# Altium integrated library Sensor-Transductor.IntLib: 25 symbols
Pins are listed as number, name and electrical type; pins without a type are passive.

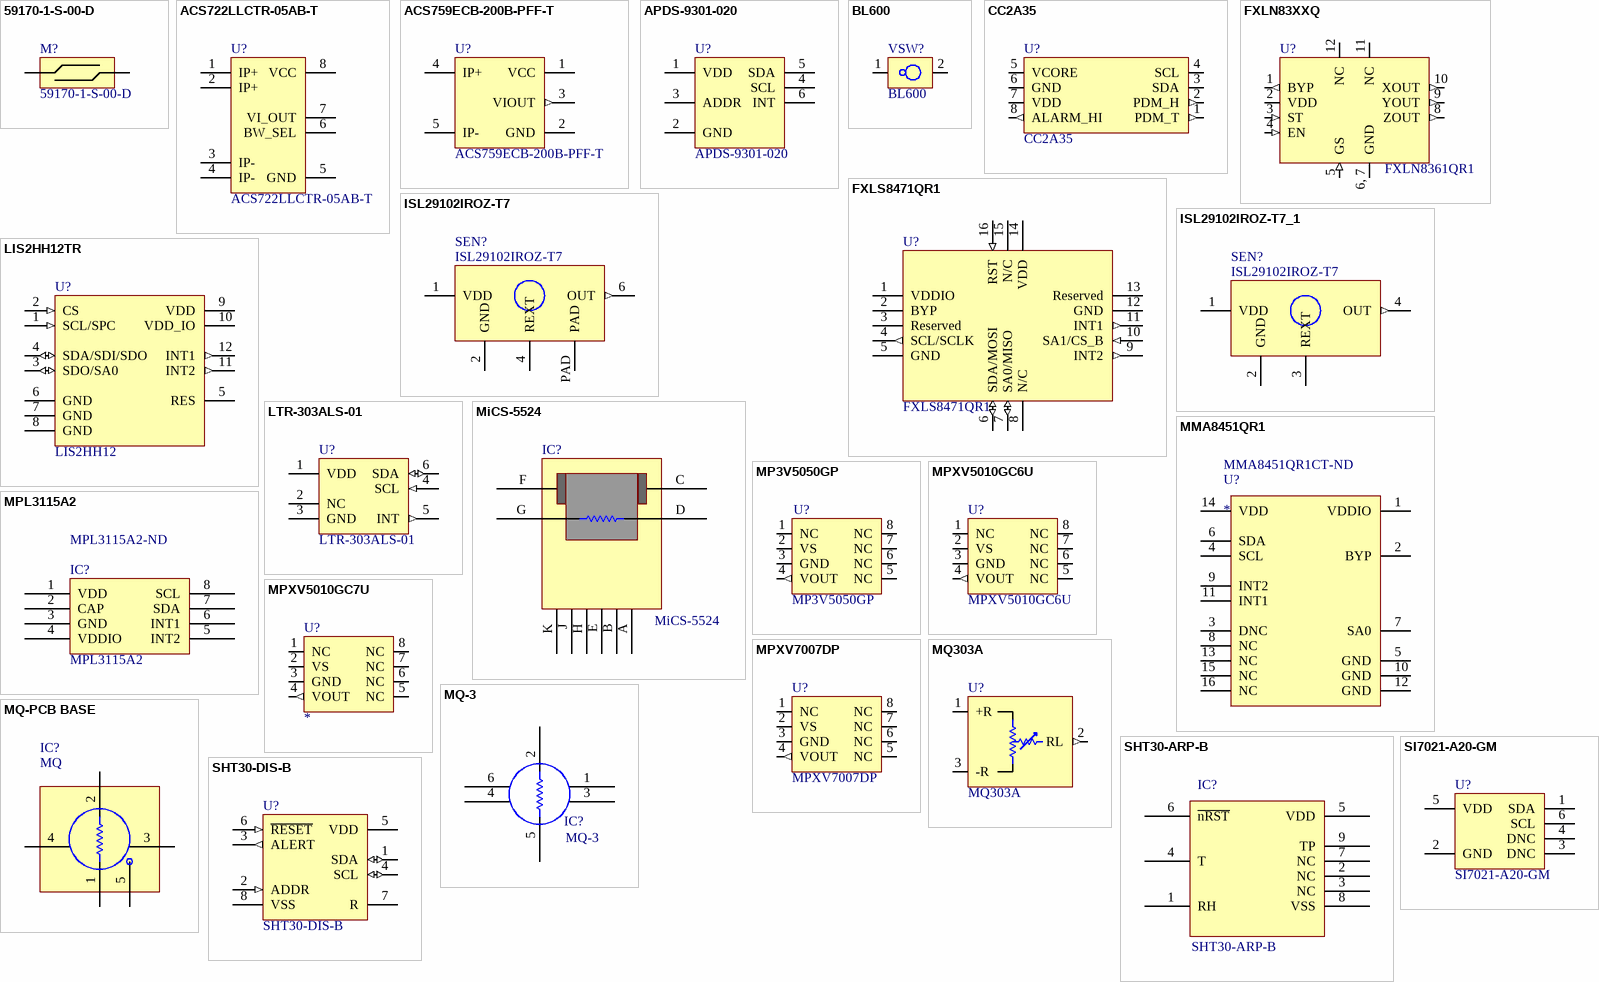
[diagram p0: symbols 59170-1-S-00-D to SI7021-A20-GM]

## 59170-1-S-00-D
designator M?
Switch Reed N.O. 0.5A 200VDC 10VA 1ms 100mOhm; Manufacturer: Littelfuse Hamlin; Nominal Supply Current: 500mA; Throw Configuration: SPST; Contact Resistance: 100mR; Max Voltage Rating (DC): 200V; Supplier 1: Digi-Key; Manufacturer Part Number: 59170-1-S-00-D; Stock 1: 32378; Pricing 1: 1=0.97, 10=0.853, 25=0.8184, 50=0.7672, 100=0.7502, 250=0.5968, 500=0.5456 (USD); Mount: Surface Mount,PCB; Case/Package: 200; Min Operating Temperature: -40°C; Max Operating Temperature: 125°C; Package Quantity: 1; Packaging: Tape and Reel; Termination: Gull Wing; Max Current Rating: 500mA; Operating Supply Voltage: 200V; Length: 16.25mm; Radiation Hardening: No; Lead Free: Lead Free; ComponentLink1URL: https://datasheet.ciiva.com/16330/59170issue2-16330446.pdf; ComponentLink1Description: https://datasheet.ciiva.com/16330/59170issue2-16330446.pdf; Supplier Part Number 1: HE549DKR-ND; Value: 59170-1-S-00-D
footprint 59170-1-S-00-D (SWITCH REED SPST-NO)
pins: 1, 2

## ACS722LLCTR-05AB-T
designator U?
SENSOR CURRENT HALL 5A AC/DC; Manufacturer 1: Allegro MicroSystems; Sensitivity: 264mV/A; Linearity: 1%; Accuracy: 3%; Number of Channels: 1; Frequency: 80kHz; Response Time: 5us; Max Supply Current: 12mA; Polarity: Bidirectional; Max Input Voltage: 3.6V; Min Input Voltage: 3V; Supplier 1: Digi-Key; Manufacturer Part Number 1: ACS722LLCTR-05AB-T; RoHS: Yes; Category: Current Sensors; Stock 1: 22660; Pricing 1: 1=4,91000, 5=4,33200, 10=3,82700, 25=3,10520, 50=2,74420, 100=2,67200, 500=2,23866, 1000=2,09424 (USD); Case/Package: SOIC; Number of Pins: 8; Min Operating Temperature: -40°C; Max Operating Temperature: 150°C; Packaging: Tape and Reel; Current Sensing: 5A; Length: 4.9mm; Height: 1.5mm; Width: 3.9mm; ComponentLink1URL: http://www.allegromicro.com/~/media/Files/Datasheets/ACS722-Datasheet.ashx?src-supplier=Digi-Key; ComponentLink1Description: http://www.allegromicro.com/~/media/Files/Datasheets/ACS722-Datasheet.ashx?src-supplier=Digi-Key; ComponentLink2URL: https://www.allegromicro.com/~/media/Files/Datasheets/ACS722-Datasheet.ashx?src-supplier=Digi-Key; ComponentLink2Description: https://www.allegromicro.com/~/media/Files/Datasheets/ACS722-Datasheet.ashx?src-supplier=Digi-Key; Supplier Part Number 1: 620-1634-1-ND; Value: ACS722LLCTR-05AB-T
footprint SOIC8 (SOIC, 8-Leads, Body 4.9x3.9mm, Pitch 1.27mm, IPC Medium Density)
pins: 1 IP+, 2 IP+, 3 IP-, 4 IP-, 5 GND, 6 BW_SEL, 7 VI_OUT, 8 VCC

## ACS759ECB-200B-PFF-T
designator U?
SENSOR CURRENT HALL 200A AC/DC; Manufacturer: Allegro MicroSystems, LLC; Sensor Type: Hall Effect, Open Loop; Number of Channels: 1; Output: Ratiometric, Voltage; Sensitivity: 8.8mV/A; Frequency: DC ~ 120kHz; Linearity: ±1%; Accuracy: ±4%; Voltage - Supply: 3 V ~ 3.6 V; Response Time: 4µs; Current - Supply (Max): 13.5mA; Polarization: Bidirectional; Supplier 1: Digi-Key; Manufacturer Part Number: ACS759ECB-200B-PFF-T; RoHS: RoHS Compliant; Category: Sensors, Transducers; Stock 1: 3495; Pricing 1: 1=7.98, 5=7, 10=6.3, 25=5.6, 50=5.18, 100=4.48, 500=4.2, 1000=3.92, 5000=3.724 (USD); Packaging: Tube; Part Status: Active; For Measuring: AC/DC; Current - Sensing: 200A; Operating Temperature: -40°C ~ 85°C; Mounting Type: Through Hole; Package / Case: 5-CB Formed Leads, PFF; ComponentLink1URL: http://www.allegromicro.com/en/Products/Current-Sensor-ICs/Fifty-To-Two-Hundred-Amp-Integrated-Conductor-Sensor-ICs/~/media/Files/Datasheets/ACS759-Datasheet.pdf; ComponentLink1Description: http://www.allegromicro.com/en/Products/Current-Sensor-ICs/Fifty-To-Two-Hundred-Amp-Integrated-Conductor-Sensor-ICs/~/media/Files/Datasheets/ACS759-Datasheet.pdf; Value: ACS759ECB-200B-PFF-T; Supplier Part Number 1: 620-1466-5-ND
footprint ACS759ECB
pins: 1 VCC, 2 GND, 3 VIOUT (out), 4 IP+, 5 IP-

## APDS-9301-020
designator U?
BROADCOM LIMITED         APDS-9301-020..             AMBIENT LIGHT SENSOR, SMD; Manufacturer: Broadcom Avago; Wavelength: 640nm; Rise Time: 300ns; Output Current: 20mA; Nominal Supply Current: 600uA; Max Supply Voltage (DC): 3.6V; Min Supply Voltage (DC): 2.7V; Output Type: I2C,Digital; Supplier 1: Digi-Key; Manufacturer Part Number: APDS-9301-020; Stock 1: 16413; Pricing 1: 1=1.78, 10=1.603, 100=1.2887, 500=1.0588, 1000=0.8773 (USD); Mount: Surface Mount; Case/Package: SMD/SMT; Number of Pins: 6; Min Operating Temperature: -30°C; Max Operating Temperature: 85°C; Packaging: Tape and Reel; Package Quantity: 1; Min Supply Voltage: 2.7V; Max Supply Voltage: 3.6V; Fall Time: 300ns; Length: 2.6mm; Height: 0.55mm; Width: 2.2mm; REACH SVHC: No SVHC; ComponentLink1URL: https://datasheet.ciiva.com/4697/v02-2315en-106111-4697640.pdf; ComponentLink1Description: https://datasheet.ciiva.com/4697/v02-2315en-106111-4697640.pdf; ComponentLink2URL: https://datasheet.ciiva.com/1314/609853-1314783.pdf; ComponentLink2Description: https://datasheet.ciiva.com/1314/609853-1314783.pdf; Value: APDS-9301-020; Supplier Part Number 1: 516-2664-6-ND
footprint APDS-9301
pins: 1 VDD, 2 GND, 3 ADDR, 4 SCL, 5 SDA, 6 INT

## BL600
designator VSW?
SMD Micro Vibration Switch; Manuf1: Beelee; Populated: Yes; Value: BL600; Manuf1Partnumber: BL600; Manufacturer: Beelee; Manufacturer Part Number: BL600; RoHS: Yes
footprint BL600
pins: 1, 2

## CC2A35
designator U?
CHIPCAP2 ANALOG 3% 5V; Manufacturer: Amphenol Advanced Sensors; Sensor Type: Humidity, Temperature; Humidity Range: 0 ~ 100% RH; Output Type: PDM; Output: 14b; Accuracy: ±3% RH; Response Time: 7s; Supplier 1: Digi-Key; Supplier Part Number 1: 235-1344-ND; Manufacturer Part Number: CC2A35; RoHS: RoHS Compliant; Category: Sensors, Transducers; Stock 1: 0; Pricing 1: 1=11.57, 5=10.15, 10=9.135, 25=8.12, 50=7.511, 100=6.496, 250=6.293, 500=6.09, 1000=5.684 (USD); Sensitivity: -; Voltage - Supply: 5V; Mounting Type: Surface Mount; Operating Temperature: -40°C ~ 125°C; ComponentLink1URL: http://www.amphenol-sensors.com/index.php?option=com_edocman&task=document.download&id=23; ComponentLink1Description: http://www.amphenol-sensors.com/index.php?option=com_edocman&task=document.download&id=23; Value: CC2A35
footprint CC2A35
pins: 1 PDM_T (out), 2 PDM_H (out), 3 SDA (io), 4 SCL (io), 5 VCORE, 6 GND (power), 7 VDD (power), 8 ALARM_HI (out)

## FXLN83XXQ
designator U?, comment FXLN8361QR1
3-Axis Low Power Analog-Output Accelerometer; Manuf1: Freescale; Populated: Yes; Value: FXLN8361QR1; ROHS: Yes; Manuf1Partnumber: FXLN8361QR1; Supplier 1: Digi-Key; Supplier Part Number 1: FXLN8361QR1CT-ND
footprint QFN12
pins: 1 BYP (out), 2 VDD (power), 3 ST (in), 4 EN (in), 5 GS (in), 6, 7 GND (power), 8 ZOUT (out), 9 YOUT (out), 10 XOUT (out), 11 NC, 12 NC

## FXLS8471QR1
designator U?
ACCELEROMETER 2-8G I2C/SPI 16QFN; Manufacturer: NXP USA Inc.; Axis: X, Y, Z; Acceleration Range: ±2g, 4g, 8g; Sensitivity (LSB/g): 4096 (±2g) ~ 1024 (±8g); Bandwidth: 0.78Hz ~ 400Hz; Output Type: I²C, SPI; Voltage - Supply: 1.95 V ~ 3.6 V; Supplier 1: Digi-Key; Manufacturer Part Number: FXLS8471QR1; RoHS: RoHS Compliant; Category: Sensors, Transducers; Stock 1: 30075; Pricing 1: 1=2.73, 5=2.538, 10=2.109, 25=1.7572, 50=1.562, 100=1.4839, 500=1.3596 (USD); Packaging: Cut Tape (CT); Part Status: Active; Type: Digital; Sensitivity (mV/g): -; Features: Adjustable Bandwidth, Selectable Low Pass Filter, Selectable Scale; Operating Temperature: -40°C ~ 85°C (TA); Mounting Type: Surface Mount; Package / Case: 16-VFQFN; Supplier Device Package: 16-QFN (3x3); ComponentLink1URL: http://cache.freescale.com/files/sensors/doc/data_sheet/FXLS8471Q.pdf; ComponentLink1Description: http://cache.freescale.com/files/sensors/doc/data_sheet/FXLS8471Q.pdf; Supplier Part Number 1: FXLS8471QR1CT-ND; Value: FXLS8471QR1
footprint PQFN50P300X300X100-16N (PQFN, 16-Leads, Body 3,00x3,00mm, Pitch 0,50mm, IPC Medium Density)
pins: 1 VDDIO, 2 BYP, 3 Reserved, 4 SCL/SCLK (out), 5 GND, 6 SDA/MOSI (io), 7 SA0/MISO (io), 8 N/C, 9 INT2 (out), 10 SA1/CS_B (in), 11 INT1 (out), 12 GND, 13 Reserved, 14 VDD, 15 N/C, 16 RST (in)

## ISL29102IROZ-T7
designator SEN?
IC, LIGHT-TO-VOLTAGE CONV, ODFN-6 - More Details; Manufacturer: Intersil; Wavelength: 550; Max Supply Voltage: 3.3; Min Supply Voltage: 1.8; Max Supply Voltage (DC): 3; Min Supply Voltage (DC): 2; Operating Supply Current: 10; Supplier 1: Digikey; Manufacturer Part Number: ISL29102IROZ-T7; Stock 1: 3547; Pricing 1: 1=2.7, 5=2.502, 10=2.079, 25=1.7324, 50=1.54, 100=1.463, 500=1.232, 1000=1.155 (USD); Number of Pins: 6; Min Operating Temperature: -40; Max Operating Temperature: 85; Package Quantity: 3000; Packaging: Tape and Reel; REACH SVHC: Unknown; ComponentLink1URL: https://datasheet.ciiva.com/2819/fn6483-2819395.pdf; ComponentLink1Description: https://datasheet.ciiva.com/2819/fn6483-2819395.pdf; ComponentLink2URL: https://datasheet.ciiva.com/2819/fn6483-2819396.pdf; ComponentLink2Description: https://datasheet.ciiva.com/2819/fn6483-2819396.pdf; ComponentLink3URL: https://datasheet.ciiva.com/2819/fn6483-2819397.pdf; ComponentLink3Description: https://datasheet.ciiva.com/2819/fn6483-2819397.pdf; ComponentLink4URL: https://datasheet.ciiva.com/1176/fn6483-1176198.pdf; ComponentLink4Description: https://datasheet.ciiva.com/1176/fn6483-1176198.pdf; ComponentLink5URL: https://datasheet.ciiva.com/1176/1909878-1176199.pdf; ComponentLink5Description: https://datasheet.ciiva.com/1176/1909878-1176199.pdf; ComponentLink6URL: https://datasheet.ciiva.com/8125/fn6483-8125817.pdf; ComponentLink6Description: https://datasheet.ciiva.com/8125/fn6483-8125817.pdf; ComponentLink7URL: https://datasheet.ciiva.com/16617/fn6483-16617210.pdf; ComponentLink7Description: https://datasheet.ciiva.com/16617/fn6483-16617210.pdf; Supplier Part Number 1: ISL29102IROZ-T7CT-ND; Value: ISL29102IROZ-T7
footprint ODFN-6 (6 LEAD OPTICAL DUAL FLAT NO-LEAD PLASTIC PACKAGE (ODFN))
pins: 1 VDD (power), 2 GND, 4 REXT, 6 OUT (out), PAD

## ISL29102IROZ-T7_1
designator SEN?, comment ISL29102IROZ-T7
IC, LIGHT-TO-VOLTAGE CONV, ODFN-6 - More Details; Manufacturer: Intersil; Wavelength: 550; Max Supply Voltage: 3.3; Min Supply Voltage: 1.8; Max Supply Voltage (DC): 3; Min Supply Voltage (DC): 2; Operating Supply Current: 10; Supplier 1: Digikey; Manufacturer Part Number: ISL29102IROZ-T7; Stock 1: 3547; Pricing 1: 1=2.7, 5=2.502, 10=2.079, 25=1.7324, 50=1.54, 100=1.463, 500=1.232, 1000=1.155 (USD); Number of Pins: 6; Min Operating Temperature: -40; Max Operating Temperature: 85; Package Quantity: 3000; Packaging: Tape and Reel; REACH SVHC: Unknown; ComponentLink1URL: https://datasheet.ciiva.com/2819/fn6483-2819395.pdf; ComponentLink1Description: https://datasheet.ciiva.com/2819/fn6483-2819395.pdf; ComponentLink2URL: https://datasheet.ciiva.com/2819/fn6483-2819396.pdf; ComponentLink2Description: https://datasheet.ciiva.com/2819/fn6483-2819396.pdf; ComponentLink3URL: https://datasheet.ciiva.com/2819/fn6483-2819397.pdf; ComponentLink3Description: https://datasheet.ciiva.com/2819/fn6483-2819397.pdf; ComponentLink4URL: https://datasheet.ciiva.com/1176/fn6483-1176198.pdf; ComponentLink4Description: https://datasheet.ciiva.com/1176/fn6483-1176198.pdf; ComponentLink5URL: https://datasheet.ciiva.com/1176/1909878-1176199.pdf; ComponentLink5Description: https://datasheet.ciiva.com/1176/1909878-1176199.pdf; ComponentLink6URL: https://datasheet.ciiva.com/8125/fn6483-8125817.pdf; ComponentLink6Description: https://datasheet.ciiva.com/8125/fn6483-8125817.pdf; ComponentLink7URL: https://datasheet.ciiva.com/16617/fn6483-16617210.pdf; ComponentLink7Description: https://datasheet.ciiva.com/16617/fn6483-16617210.pdf; Supplier Part Number 1: ISL29102IROZ-T7CT-ND; Value: ISL29102IROZ-T7
footprint PAD-SENSOR
pins: 1 VDD (power), 2 GND, 3 REXT, 4 OUT (out)

## LIS2HH12TR
designator U?, comment LIS2HH12
Accelerometer Triple ±2g/±4g/±8g 1.8V/2.5V/3.3V 12-Pin LGA T/R; Manufacturer: STMicroelectronics; Manufacturer Part Number: LIS2HH12TR; Bandwidth: 400Hz; Output Type: Digital,I2C,SPI; Axis: X, Y, Z; Operating Supply Voltage: 3.6V; Supplier 1: Digi-Key; RoHS: Yes; Stock 1: 40000; Pricing 1: 8000 = 0,53200 (USD); Mount: Surface Mount; Case/Package: LGA; Number of Pins: 12; Contact Plating: Gold; Min Operating Temperature: -40°C; Max Operating Temperature: 85°C; Packaging: Tape and Reel; Lead Free: Lead Free; Supplier Part Number 1: 497-15069-2-ND; Value: LIS2HH12
footprint LGA12C50P4X4_200X200X100 (LGA, 12-Leads, Body 2,00x2,00mmx1,00mm, Pitch 0,50mm)
pins: 1 SCL/SPC (in), 2 CS (in), 3 SDO/SA0 (io), 4 SDA/SDI/SDO (io), 5 RES (power), 6 GND (power), 7 GND (power), 8 GND (power), 9 VDD (power), 10 VDD_IO (power), 11 INT2 (out), 12 INT1 (out)

## LTR-303ALS-01
designator U?
Digital Ambient Light Sensor 6-Pin SMD T/R; Manufacturer: Vishay Lite-On; Output Type: I2C; Supplier 1: Digi-Key; Manufacturer Part Number: LTR-303ALS-01; RoHS: Yes; Stock 1: 20000; Pricing 1: 2500 = 0,40000, 5000 = 0,37500, 7500 = 0,35625, 12500 = 0,35000, 17500 = 0,34375, 25000 = 0,33750 (USD); Mount: Surface Mount; Case/Package: DFN; Number of Pins: 6; Min Operating Temperature: -30°C; Max Operating Temperature: 70°C; Packaging: Tape and Reel; Value: LTR-303ALS-01; Supplier Part Number 1: 160-2161-2-ND
footprint LTR-303ALS-01
pins: 1 VDD, 2 NC, 3 GND, 4 SCL (in), 5 INT (out), 6 SDA (io)

## MiCS-5524
designator IC?
Compact MOS sensor. Carbon monoxide, Ethanol, Hydrogen, Ammonia, Methane
footprint MiCS-5524
pins: A, B, C, D, E, F, G, H, J, K

## MMA8451QR1
designator U?  Supplier Part Number 1: MMA8451QR1CT-ND
ACCELEROMETER 2-8G I2C 16QFN; Manufacturer: NXP USA Inc.; Manufacturer Part Number: MMA8451QR1; Axis: X, Y, Z; Acceleration Range: ±2g, 4g, 8g; Sensitivity (LSB/g): 4096 (±2g) ~ 1024 (±8g); Bandwidth: 0.78Hz ~ 400Hz; Output Type: I²C; Voltage - Supply: 1.95 V ~ 3.6 V; Value: MMA8451QR1; Supplier 1: Digi-Key; RoHS: RoHS Compliant; Category: Sensors, Transducers; Stock 1: 51005; Pricing 1: 1=2.65, 5=2.502, 10=2.145, 25=1.716, 50=1.573, 100=1.43, 500=1.25126 (USD); Packaging: Cut Tape (CT); Part Status: Active; Type: Digital; Sensitivity (mV/g): -; Features: Adjustable Bandwidth, Selectable Scale, Sleep Mode; Operating Temperature: -40°C ~ 85°C (TA); Mounting Type: Surface Mount; Package / Case: 16-VFQFN; Supplier Device Package: 16-QFN (3x3); ComponentLink1URL: http://cache.freescale.com/files/sensors/doc/data_sheet/MMA8451Q.pdf; ComponentLink1Description: http://cache.freescale.com/files/sensors/doc/data_sheet/MMA8451Q.pdf
footprint QFN16 (3X3) (QFN, 16-Leads, Body 3.00x3.00mm, Pitch 0.50mm, IPC Medium Density)
pins: 1 VDDIO, 2 BYP, 3 DNC, 4 SCL, 5 GND, 6 SDA, 7 SA0, 8 NC, 9 INT2, 10 GND, 11 INT1, 12 GND, 13 NC, 14 VDD, 15 NC, 16 NC

## MP3V5050GP
designator U?
Supplier 1: Digi-Key; Supplier Part Number 1: MP3V5050GP-ND
footprint MP3V5050GP
pins: 1 NC, 2 VS (power), 3 GND (power), 4 VOUT (out), 5 NC, 6 NC, 7 NC, 8 NC

## MPL3115A2
designator IC?  Supplier Part Number 1: MPL3115A2-ND
FREESCALE SEMICONDUCTOR   MPL3115A2   Pressure Sensor, Absolute, 20 kPa, 110 kPa, 1.95 V, 3.6 V; Manufacturer: NXP Freescale; Operating Supply Voltage: 2.5V; Output Type: Digital,I2C; Max Supply Voltage: 3.6V; Operating Pressure: 15.95PSI; Port Style: No Port; Max Pressure: 72.52PSI; Accuracy: 1%; Nominal Supply Current: 2uA; Min Supply Voltage: 1.95V; Max Output Voltage: 1V; Min Output Voltage: 900mV; Supplier 1: Digi-Key; Manufacturer Part Number: MPL3115A2; Stock 1: 12379; Pricing 1: 1 = 5,34000, 10 = 4,16300, 25 = 3,37760, 100 = 2,90630, 500 = 2,43502, 1000 = 2,27792 (USD); RoHS: Yes; Case/Package: LGA; Number of Pins: 8; Weight: 0.001104oz; Contact Plating: Gold; Min Operating Temperature: -40°C; Max Operating Temperature: 85°C; Package Quantity: 490; Packaging: Tray; Pressure Type: Absolute; Termination: PCB; Length: 5mm; Height: 1.2mm; Width: 3mm; Radiation Hardening: No; REACH SVHC: No SVHC; ComponentLink1URL: https://datasheet.ciiva.com/5298/mpl3115a2-39416-5298160.pdf?src-supplier=Mouser; ComponentLink1Description: https://datasheet.ciiva.com/5298/mpl3115a2-39416-5298160.pdf?src-supplier=Mouser; ComponentLink2URL: https://datasheet.ciiva.com/14666/0900766b8109ab24-14666722.pdf?src-supplier=RSComponents; ComponentLink2Description: https://datasheet.ciiva.com/14666/0900766b8109ab24-14666722.pdf?src-supplier=RSComponents; ComponentLink3URL: https://datasheet.ciiva.com/1650/1506456-1650883.pdf?src-supplier=Newark; ComponentLink3Description: https://datasheet.ciiva.com/1650/1506456-1650883.pdf?src-supplier=Newark; ComponentLink4URL: https://datasheet.ciiva.com/3272/mpl3115a2-3272740.pdf?src-supplier=Avnet; ComponentLink4Description: https://datasheet.ciiva.com/3272/mpl3115a2-3272740.pdf?src-supplier=Avnet; ComponentLink5URL: https://datasheet.ciiva.com/15222/getdatasheetpartid-567123-15222302.pdf?src-supplier=Verical; ComponentLink5Description: https://datasheet.ciiva.com/15222/getdatasheetpartid-567123-15222302.pdf?src-supplier=Verical; ComponentLink6URL: https://datasheet.ciiva.com/2843/mpl3115a2-2843362.pdf?src-supplier=Digi-Key; ComponentLink6Description: https://datasheet.ciiva.com/2843/mpl3115a2-2843362.pdf?src-supplier=Digi-Key; ComponentLink7URL: https://datasheet.ciiva.com/1513/1789334-1513798.pdf?src-supplier=Element14; ComponentLink7Description: https://datasheet.ciiva.com/1513/1789334-1513798.pdf?src-supplier=Element14; ComponentLink8URL: https://datasheet.ciiva.com/26023/mpl3115a2-26023222.pdf?src-supplier=Avnet+Europe; ComponentLink8Description: https://datasheet.ciiva.com/26023/mpl3115a2-26023222.pdf?src-supplier=Avnet+Europe; ComponentLink9URL: https://datasheet.ciiva.com/16463/mpl3115a2-16463821.pdf?src-supplier=Future+Electronics; ComponentLink9Description: https://datasheet.ciiva.com/16463/mpl3115a2-16463821.pdf?src-supplier=Future+Electronics
footprint MPL3115A2
pins: 1 VDD, 2 CAP, 3 GND, 4 VDDIO, 5 INT2, 6 INT1, 7 SDA, 8 SCL

## MPXV5010GC6U
designator U?
SENSOR INTEG SILICON PRESSURE; Manufacturer: Freescale Semiconductor - NXP; Pressure Type: Vented Gauge; Operating Pressure: 1.45 PSI (10 kPa); Output Type: Analog Voltage; Output: 0.2 V ~ 4.7 V; Accuracy: ±5%; Voltage - Supply: 4.75 V ~ 5.25 V; Port Size: Male - 0.13" (3.17mm) Tube; Port Style: Barbless; Maximum Pressure: 5.8 PSI (40 kPa); Populated: Yes; Supplier 1: Digi-Key; Supplier Part Number 1: MPXV5010GC6U-ND; Manufacturer Part Number: MPXV5010GC6U; RoHS: RoHS Compliant; Category: Sensors, Transducers; Stock 1: 151; Pricing 1: 1=13.12, 10=12.393, 25=11.664, 100=8.748 (USD); Features: Temperature Compensated; Termination Style: PCB; Operating Temperature: -40°C ~ 125°C; Package / Case: 8-SMD, Gull Wing, Top Port; Supplier Device Package: -; ComponentLink1URL: http://www.freescale.com/files/sensors/doc/data_sheet/MPX5010.pdf; ComponentLink1Description: http://www.freescale.com/files/sensors/doc/data_sheet/MPX5010.pdf; Value: MPXV5010GC6U
footprint MPXV5010GC7U-ND
pins: 1 NC, 2 VS (power), 3 GND (power), 4 VOUT (out), 5 NC, 6 NC, 7 NC, 8 NC

## MPXV5010GC7U
designator U?
SENSOR INTEG SILICON PRESSURE; Manufacturer: Freescale Semiconductor - NXP; Manufacturer Part Number: MPXV5010GC7U; Pressure Type: Vented Gauge; Operating Pressure: 1.45 PSI (10 kPa); Output Type: Analog Voltage; Output: 0.2 V ~ 4.7 V; Accuracy: ±5%; Voltage - Supply: 4.75 V ~ 5.25 V; Port Size: Male - 0.13" (3.17mm) Tube; Port Style: Barbless; Maximum Pressure: 5.8 PSI (40 kPa); Supplier 1: Digi-Key; Supplier Part Number 1: MPXV5010GC7U-ND; RoHS: RoHS Compliant; Category: Sensors, Transducers; Stock 1: 1796; Pricing 1: 1=11.38, 10=10.744, 25=10.112, 100=7.584 (USD); Features: Temperature Compensated; Termination Style: PCB; Operating Temperature: -40°C ~ 125°C; Package / Case: 8-DIP (0.550", 13.97mm), Top Port; Supplier Device Package: 8-DIP; ComponentLink1URL: http://www.freescale.com/files/sensors/doc/data_sheet/MPX5010.pdf; ComponentLink1Description: http://www.freescale.com/files/sensors/doc/data_sheet/MPX5010.pdf; Value: *
footprint MPXV5010GC7U-ND - PTH
footprint MPXV5010GC7U-ND - PTH - BASE
pins: 1 NC, 2 VS (power), 3 GND (power), 4 VOUT (out), 5 NC, 6 NC, 7 NC, 8 NC

## MPXV7007DP
designator U?
PRESSURE SENSOR DUAL PORT 8-SOP; Manufacturer 1: NXP Freescale; Output Type: Analog Voltage,Analog; Pressure Type: Differential; Operating Pressure: 1.02PSI; Accuracy: 5%; Port Style: Barbed; Max Pressure: 10.88PSI; Output Voltage: 4.5V; Operating Supply Voltage: 5V; Nominal Supply Current: 7mA; Max Supply Voltage: 5.25V; Min Supply Voltage: 4.75V; Supplier 1: Digi-Key; Manufacturer Part Number 1: MPXV7007DP; RoHS: Yes; Category: Pressure Sensors; Stock 1: 2066; Pricing 1: 1=17,77000, 5=17,40400, 10=14,50400, 25=13,41600, 50=13,05320, 100=11,24030, 500=10,51512, 1000=9,97123, 5000=9,24605 (USD); Mount: Surface Mount; Case/Package: SMD/SMT; Number of Pins: 8; Weight: 0.07841oz; Min Operating Temperature: -40°C; Max Operating Temperature: 125°C; Termination: PCB; Packaging: Tray; Package Quantity: 125; Radiation Hardening: No; Lead Free: Lead Free; Halogen Free: Not Halogen Free; ComponentLink1URL: https://datasheet.ciiva.com/26929/mpxv7007dp-26929447.pdf?src-supplier=IIIC; ComponentLink1Description: https://datasheet.ciiva.com/26929/mpxv7007dp-26929447.pdf?src-supplier=IIIC; ComponentLink2URL: https://datasheet.ciiva.com/2825/mpxv7007-2825389.pdf?src-supplier=Digi-Key; ComponentLink2Description: https://datasheet.ciiva.com/2825/mpxv7007-2825389.pdf?src-supplier=Digi-Key; ComponentLink3URL: https://datasheet.ciiva.com/48700/001182945-da-01-en-pressure-sensor-dua-mpxv7007dp-sop-8-fre-48700331.pdf?src-supplier=Conrad; ComponentLink3Description: https://datasheet.ciiva.com/48700/001182945-da-01-en-pressure-sensor-dua-mpxv7007dp-sop-8-fre-48700331.pdf?src-supplier=Conrad; Value: MPXV7007DP; Supplier Part Number 1: MPXV7007DP-ND
footprint MPXV7007DP
footprint MPXV7007GP
pins: 1 NC, 2 VS (power), 3 GND (power), 4 VOUT (out), 5 NC, 6 NC, 7 NC, 8 NC

## MQ303A
designator U?
Seeed Studio Accessories Alcohol Sensor MQ303A; Manufacturer Part Number: 314100009; Populated: Yes; Supplier 1: Mouser; Supplier Part Number 1: 713-314100009; Manufacturer: Seeed Studio; RoHS: RoHS Compliant; Category: Seeed Studio Accessories; Stock 1: 0; Pricing 1: 1=5.50 (USD); Product: Sensors; Type: Air Quality Sensors; Brand: Seeed Studio; Standard Pack Qty: 1; RoHS - Mouser: Y; Minimum Order Quantity: 1; Reeling: False; ComponentLink1URL: http://www.mouser.com/ds/2/744/MQ303A-766259.pdf; ComponentLink1Description: http://www.mouser.com/ds/2/744/MQ303A-766259.pdf; Value: MQ303A
footprint MQ303A
footprint MQ303A - BASE
footprint MQ303B
footprint MQ303B - BASE
pins: 1 +R (power), 2 RL (out), 3 -R (power)

## MQ-3
designator IC?
footprint MQ-3
pins: 1, 2, 3, 4, 5, 6

## MQ-PCB BASE
designator IC?, comment MQ
footprint MQ135-PCB BASE
footprint MQ3-PCB BASE
pins: 1, 2, 3, 4, 5

## SHT30-ARP-B
designator IC?
SENSOR HUMID/TEMP 5V ANLG 3% SMD; Manufacturer 1: Sensirion; Sensor Type: Temperature; Output Type: Analog Voltage; Response Time: 8s; Min Supply Voltage: 2.4V; Max Supply Voltage: 5.5V; Capacitance: 5nF; Supplier 1: Digi-Key; Manufacturer Part Number 1: SHT30-ARP-B; Stock 1: 2843; Pricing 1: 1=3,93000, 5=3,46600, 10=3,06100, 25=2,48320, 50=2,19460, 100=2,13680, 500=1,79026, 1000=1,67475 (USD); RoHS: Yes; Mount: Surface Mount; Min Operating Temperature: -40°C; Max Operating Temperature: 125°C; Accuracy: 3%; Lead Free: Lead Free; REACH SVHC: Unknown; ComponentLink1URL: https://media.digikey.com/pdf/Data%20Sheets/Sensirion%20PDFs/Infoletter184101SHT3x_ARP_DatasheetUpdate.pdf?src-supplier=Digi-Key; ComponentLink1Description: https://media.digikey.com/pdf/Data%20Sheets/Sensirion%20PDFs/Infoletter184101SHT3x_ARP_DatasheetUpdate.pdf?src-supplier=Digi-Key; ComponentLink2URL: http://www.farnell.com/datasheets/2000035.pdf?src-supplier=Farnell; ComponentLink2Description: http://www.farnell.com/datasheets/2000035.pdf?src-supplier=Farnell; ComponentLink3URL: https://media.digikey.com/pdf/Data%20Sheets/Sensirion%20PDFs/HT_DS_SHT3x_ARP_V3.pdf?src-supplier=Digi-Key; ComponentLink3Description: https://media.digikey.com/pdf/Data%20Sheets/Sensirion%20PDFs/HT_DS_SHT3x_ARP_V3.pdf?src-supplier=Digi-Key; ComponentLink4URL: https://www.sensirion.com/fileadmin/user_upload/customers/sensirion/Dokumente/2_Humidity_Sensors/Sensirion_Humidity_Sensors_Testing_Guide_V1.2.pdf?src-supplier=Digi-Key; ComponentLink4Description: https://www.sensirion.com/fileadmin/user_upload/customers/sensirion/Dokumente/2_Humidity_Sensors/Sensirion_Humidity_Sensors_Testing_Guide_V1.2.pdf?src-supplier=Digi-Key; ComponentLink5URL: http://www.farnell.com/datasheets/2000035.pdf?src-supplier=Element14; ComponentLink5Description: http://www.farnell.com/datasheets/2000035.pdf?src-supplier=Element14; Supplier Part Number 1: 1649-1010-1-ND
footprint SHT30-ARP-B
pins: 1 RH, 2 NC, 3 NC, 4 T, 5 VDD, 6 ~{nRST}, 7 NC, 8 VSS, 9 TP

## SHT30-DIS-B
designator U?
SENSIRION         SHT30-DIS-B.             HUMIDITY SENSOR, 2.4V-5.5V, DIGITAL; Response Time: 8s; Min Supply Voltage: 2.4V; Max Supply Voltage: 5.5V; Capacitance: 100nF; Accuracy: 3%; Sensor Type: Temperature; Output Type: I2C; Supplier 1: Digi-Key; Manufacturer: Sensirion; Manufacturer Part Number: SHT30-DIS-B; RoHS: Yes; Stock 1: 8665; Pricing 1: 1 = 3,93000, 5 = 3,46600, 10 = 3,06100, 25 = 2,48320, 50 = 2,19460, 100 = 2,13680, 500 = 1,79026, 1000 = 1,67475 (USD); Mount: Surface Mount; Min Operating Temperature: -40°C; Max Operating Temperature: 125°C; REACH SVHC: Unknown; Lead Free: Lead Free; Value: SHT30-DIS-B; Supplier Part Number 1: 1649-1009-1-ND
footprint QFN50P250X250X69_HS-9N (QFN, 8-Leads, Body 2,50x2,50mm, Pitch 0,50mm, Thermal Pad 1,80x1,10mm, IPC Medium Density)
pins: 1 SDA (io), 2 ADDR (in), 3 ALERT (out), 4 SCL (io), 5 VDD, 6 ~{RESET} (in), 7 R, 8 VSS

## SI7021-A20-GM
designator U?
SENS HUMI/TEMP 3.6V I2C 3% 6DFN; Manufacturer: Silicon Labs; Sensor Type: Humidity, Temperature; Humidity Range: 0 ~ 100% RH; Output Type: I²C; Output: 12b; Accuracy: ±3% RH; Voltage - Supply: 1.9 V ~ 3.6 V; Supplier 1: Digi-Key; Manufacturer Part Number: SI7021-A20-GM; RoHS: RoHS Compliant; Category: Sensors, Transducers; Stock 1: 215; Pricing 1: 1=3.06, 25=2.9496, 100=2.8363, 1000=2.712 (USD); Packaging: Tube; Part Status: Active; Sensitivity: -; Mounting Type: Surface Mount; Operating Temperature: -40°C ~ 85°C; ComponentLink1URL: https://www.silabs.com/Support%20Documents/TechnicalDocs/Si7021-A20.pdf; ComponentLink1Description: https://www.silabs.com/Support%20Documents/TechnicalDocs/Si7021-A20.pdf; Supplier Part Number 1: 336-3140-5-ND; Value: SI7021-A20-GM
footprint DFN6-3x3
footprint DFN6-3x3 - UPDATE
pins: 1 SDA, 2 GND, 3 DNC, 4 DNC, 5 VDD, 6 SCL